# Altium schematic symbol library Pinpads_Series_SCH_Library_ARAF.SchLib: 2 symbols
Pins are listed as number, name and electrical type; pins without a type are passive.

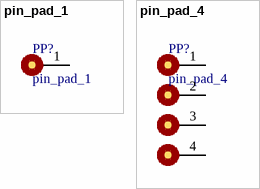
[diagram p0: symbols pin_pad_1 to pin_pad_4]

## pin_pad_1
designator PP?
footprint pinpad_1
pins: 1

## pin_pad_4
designator PP?
footprint pinpad_4
pins: 1, 2, 3, 4